# Altium footprint library Mechanical.PcbLib: 35 footprints (part 2 of 3)
Each footprint in its own frame and in the unit in brackets; x right, y up, seen from the top. Pads: shape width x height; smd on the part's side, far side on the other; paste and mask are expansions set on the pad; w line width, h text height; cw(c..) or ccw(c..) is an arc to the next point about the centre after c.
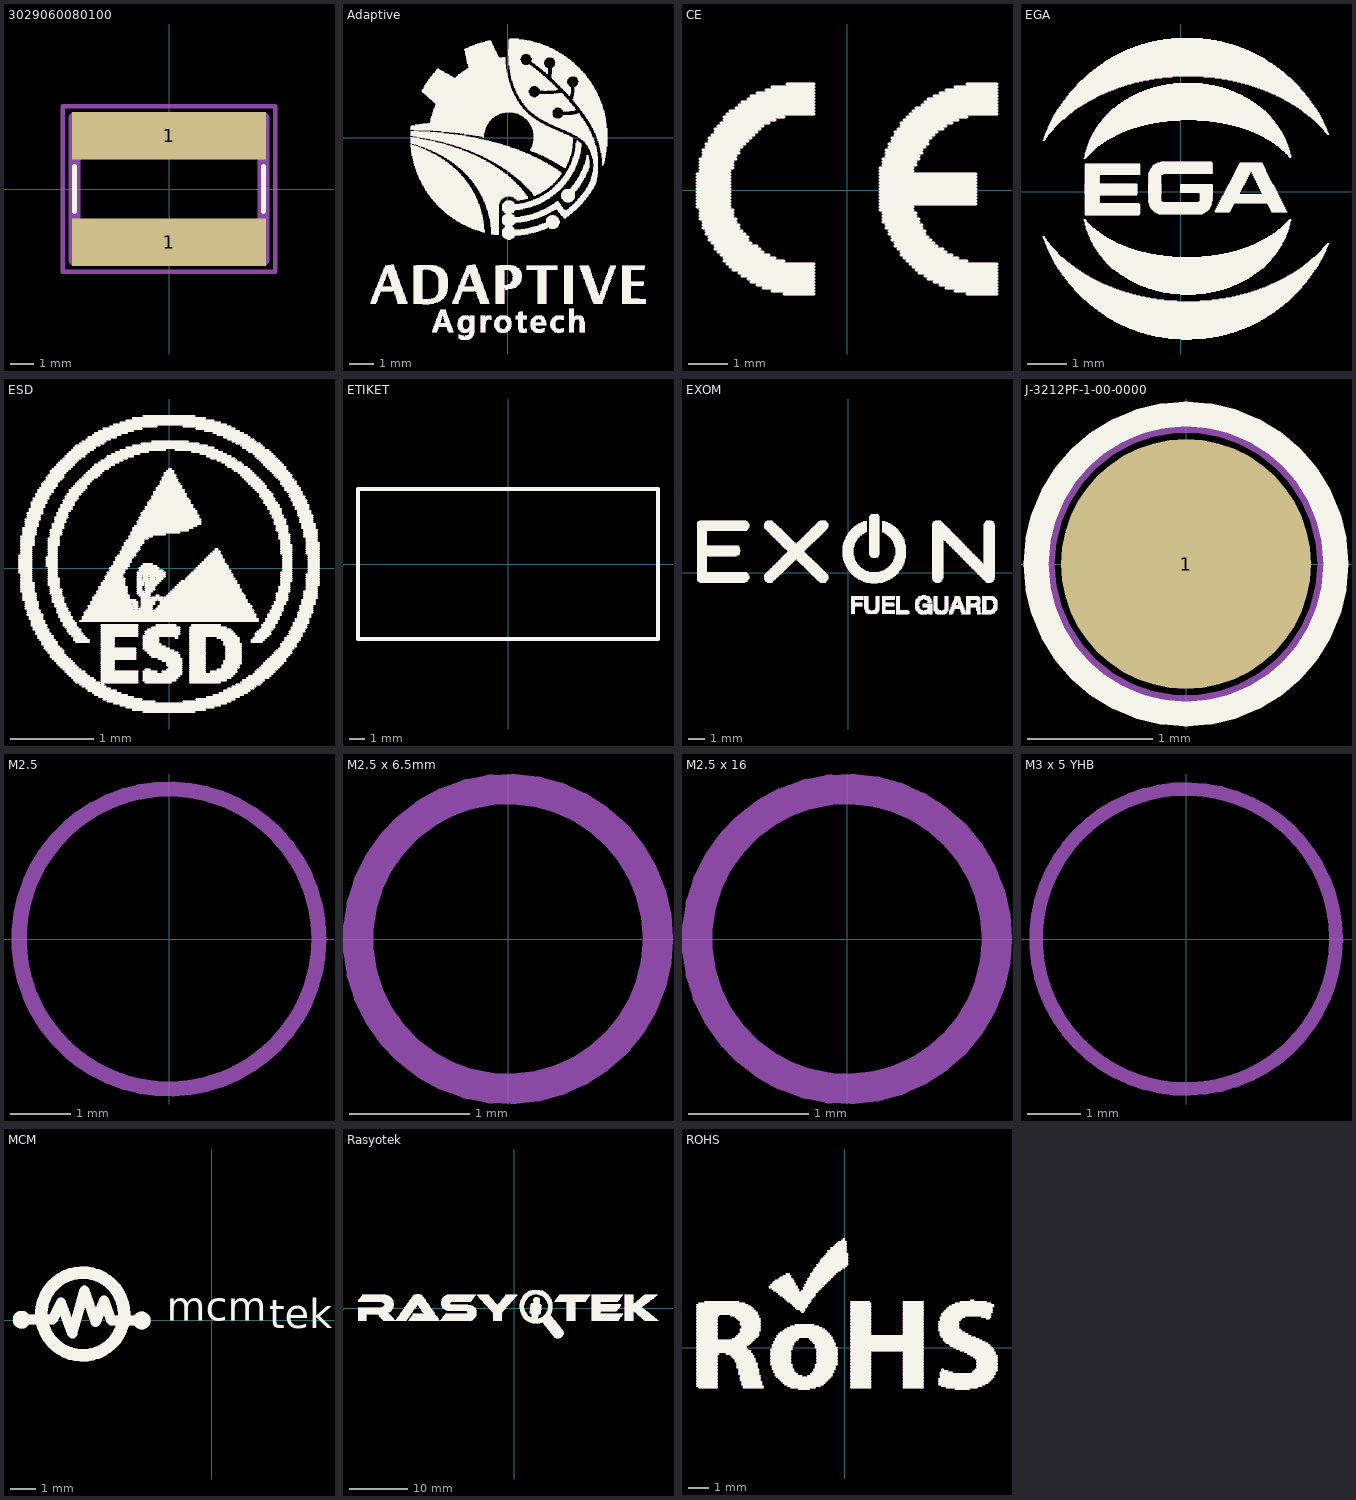
[diagram p1: the footprints below, top view; thin cyan lines are the x and y axes]

## 618009221823 [mm]
3D body "618009221823 (rev1).stp": height 30.83, standoff 0.01, extent -6.255,-9.06 6.295,12.3

## 3029060080100 [mm] "Surface Mount Solderable Gasket, size 8x6mm"
height 10
pads (2):
  rect 8.2x2 smd: 1(0,-2.25) 1(0,2.25)
Top Overlay:
  lines w0.2: -4,-0.95 -4,0.95 ; 4,-0.95 4,0.95
Mechanical 13:
  lines w0.5: -4,-3 -4,3 4,3 4,-3 -4,-3
  text ".Designator" at -4.998,-0.333 h1
Mechanical 15:
  lines w0.2: -4.5,-3.5 4.5,-3.5 4.5,3.5 -4.5,3.5 -4.5,-3.5
3D body "3029060080100.stp": height 10, standoff 0, extent -4,-3 4,3

## Adaptive [mm]
Top Overlay:
  drawing of 2644 lines, arcs and shapes, not listed
Mechanical 13:
  drawing of 2644 lines, arcs and shapes, not listed

## CE [mm]
Top Overlay:
  lines w0.076: -3.81,-0.432 -2.972,-0.432 ; -3.81,-0.356 -2.972,-0.356 ; -3.81,-0.279 -2.972,-0.279 ; -3.81,-0.203 -2.972,-0.203 ; -3.81,-0.127 -2.972,-0.127 ; -3.81,-0.051 -2.972,-0.051 ; -3.81,0.025 -2.972,0.025 ; -3.81,0.102 -2.972,0.102 ; -3.81,0.178 -2.972,0.178 ; -3.81,0.254 -2.972,0.254 ; -3.81,0.33 -2.972,0.33 ; -3.81,0.406 -2.972,0.406 ; -3.734,-0.737 -2.819,-0.737 ; -3.734,-0.66 -2.896,-0.66 ; -3.734,-0.584 -2.896,-0.584 ; -3.734,-0.508 -2.896,-0.508 ; -3.734,0.483 -2.972,0.483 ; -3.734,0.559 -2.896,0.559 ; -3.734,0.635 -2.896,0.635 ; -3.734,0.711 -2.896,0.711 ; -3.734,0.787 -2.819,0.787 ; -3.658,-0.965 -2.743,-0.965 ; -3.658,-0.889 -2.743,-0.889 ; -3.658,-0.813 -2.819,-0.813 ; -3.658,0.864 -2.819,0.864 ; -3.658,0.94 -2.743,0.94 ; -3.658,1.016 -2.743,1.016 ; -3.581,-1.118 -2.591,-1.118 ; -3.581,-1.041 -2.667,-1.041 ; -3.581,1.092 -2.667,1.092 ; -3.581,1.168 -2.591,1.168 ; -3.505,-1.27 -2.515,-1.27 ; -3.505,-1.194 -2.515,-1.194 ; -3.505,1.245 -2.515,1.245 ; -3.505,1.321 -2.438,1.321 ; -3.429,-1.346 -2.438,-1.346 ; -3.429,1.397 -2.362,1.397 ; -3.353,-1.499 -2.21,-1.499 ; -3.353,-1.422 -2.286,-1.422 ; -3.353,1.473 -2.286,1.473 ; -3.353,1.549 -2.21,1.549 ; -3.277,-1.575 -2.134,-1.575 ; -3.277,1.626 -2.134,1.626 ; -3.2,-1.651 -1.981,-1.651 ; -3.2,1.702 -1.981,1.702 ; -3.124,-1.803 -1.6,-1.803 ; -3.124,-1.727 -1.829,-1.727 ; -3.124,1.778 -1.829,1.778 ; -3.124,1.854 -1.6,1.854 ; -3.048,-1.88 -0.838,-1.88 ; -3.048,1.93 -0.838,1.93 ; -2.972,-1.956 -0.838,-1.956 ; -2.972,2.007 -0.838,2.007 ; -2.896,-2.032 -0.838,-2.032 ; -2.819,2.083 -0.838,2.083 ; -2.743,-2.108 -0.838,-2.108 ; -2.743,2.159 -0.838,2.159 ; -2.667,-2.184 -0.838,-2.184 ; -2.667,2.235 -0.838,2.235 ; -2.515,-2.261 -0.838,-2.261 ; -2.515,2.311 -0.838,2.311 ; -2.438,-2.337 -0.838,-2.337 ; -2.438,2.388 -0.838,2.388 ; -2.286,-2.413 -0.838,-2.413 ; -2.286,2.464 -0.838,2.464 ; -2.134,-2.489 -0.838,-2.489 ; -2.057,2.54 -0.838,2.54 ; -1.905,-2.565 -0.838,-2.565 ; -1.905,2.616 -0.838,2.616 ; -1.6,-2.642 -0.838,-2.642 ; -1.524,2.692 -0.838,2.692 ; 0.838,-0.508 1.676,-0.508 ; 0.838,-0.432 1.676,-0.432 ; 0.838,-0.356 3.277,-0.356 ; 0.838,-0.279 3.277,-0.279 ; 0.838,-0.203 3.277,-0.203 ; 0.838,-0.127 3.277,-0.127 ; 0.838,-0.051 3.277,-0.051 ; 0.838,0.025 3.277,0.025 ; 0.838,0.102 3.277,0.102 ; 0.838,0.178 3.277,0.178 ; 0.838,0.254 3.277,0.254 ; 0.838,0.33 3.277,0.33 ; 0.838,0.406 3.277,0.406 ; 0.838,0.483 1.676,0.483 ; 0.838,0.559 1.676,0.559 ; 0.914,-0.813 1.829,-0.813 ; 0.914,-0.737 1.829,-0.737 ; 0.914,-0.66 1.753,-0.66 ; 0.914,-0.584 1.753,-0.584 ; 0.914,0.635 1.753,0.635 ; 0.914,0.711 1.753,0.711 ; 0.914,0.787 1.829,0.787 ; 0.991,-0.965 1.905,-0.965 ; 0.991,-0.889 1.905,-0.889 ; 0.991,0.864 1.829,0.864 ; 0.991,0.94 1.905,0.94 ; 0.991,1.016 1.905,1.016 ; 1.067,-1.118 1.981,-1.118 ; 1.067,-1.041 1.981,-1.041 ; 1.067,1.092 1.981,1.092 ; 1.067,1.168 2.057,1.168 ; 1.143,-1.27 2.134,-1.27 ; 1.143,-1.194 2.057,-1.194 ; 1.143,1.245 2.057,1.245 ; 1.143,1.321 2.134,1.321 ; 1.219,-1.422 2.286,-1.422 ; 1.219,-1.346 2.21,-1.346 ; 1.219,1.397 2.21,1.397 ; 1.219,1.473 2.286,1.473 ; 1.295,-1.499 2.438,-1.499 ; 1.295,1.549 2.438,1.549 ; 1.372,-1.651 2.667,-1.651 ; 1.372,-1.575 2.515,-1.575 ; 1.372,1.626 2.515,1.626 ; 1.372,1.702 2.667,1.702 ; 1.448,-1.727 2.819,-1.727 ; 1.448,1.778 2.819,1.778 ; 1.524,-1.803 3.048,-1.803 ; 1.524,1.854 3.048,1.854 ; 1.6,-1.88 3.81,-1.88 ; 1.6,1.93 3.81,1.93 ; 1.676,-1.956 3.81,-1.956 ; 1.676,2.007 3.81,2.007 ; 1.753,-2.032 3.81,-2.032 ; 1.753,2.083 3.81,2.083 ; 1.829,-2.108 3.81,-2.108 ; 1.905,2.159 3.81,2.159 ; 1.981,-2.184 3.81,-2.184 ; 1.981,2.235 3.81,2.235 ; 2.057,-2.261 3.81,-2.261 ; 2.057,2.311 3.81,2.311 ; 2.21,-2.337 3.81,-2.337 ; 2.21,2.388 3.81,2.388 ; 2.362,-2.413 3.81,-2.413 ; 2.362,2.464 3.81,2.464 ; 2.515,-2.489 3.81,-2.489 ; 2.515,2.54 3.81,2.54 ; 2.743,-2.565 3.81,-2.565 ; 2.743,2.616 3.81,2.616 ; 3.048,-2.642 3.81,-2.642 ; 3.048,2.692 3.81,2.692
Mechanical 13:
  lines w0.076: -3.81,-0.432 -2.972,-0.432 ; -3.81,-0.356 -2.972,-0.356 ; -3.81,-0.279 -2.972,-0.279 ; -3.81,-0.203 -2.972,-0.203 ; -3.81,-0.127 -2.972,-0.127 ; -3.81,-0.051 -2.972,-0.051 ; -3.81,0.025 -2.972,0.025 ; -3.81,0.102 -2.972,0.102 ; -3.81,0.178 -2.972,0.178 ; -3.81,0.254 -2.972,0.254 ; -3.81,0.33 -2.972,0.33 ; -3.81,0.406 -2.972,0.406 ; -3.734,-0.737 -2.819,-0.737 ; -3.734,-0.66 -2.896,-0.66 ; -3.734,-0.584 -2.896,-0.584 ; -3.734,-0.508 -2.896,-0.508 ; -3.734,0.483 -2.972,0.483 ; -3.734,0.559 -2.896,0.559 ; -3.734,0.635 -2.896,0.635 ; -3.734,0.711 -2.896,0.711 ; -3.734,0.787 -2.819,0.787 ; -3.658,-0.965 -2.743,-0.965 ; -3.658,-0.889 -2.743,-0.889 ; -3.658,-0.813 -2.819,-0.813 ; -3.658,0.864 -2.819,0.864 ; -3.658,0.94 -2.743,0.94 ; -3.658,1.016 -2.743,1.016 ; -3.581,-1.118 -2.591,-1.118 ; -3.581,-1.041 -2.667,-1.041 ; -3.581,1.092 -2.667,1.092 ; -3.581,1.168 -2.591,1.168 ; -3.505,-1.27 -2.515,-1.27 ; -3.505,-1.194 -2.515,-1.194 ; -3.505,1.245 -2.515,1.245 ; -3.505,1.321 -2.438,1.321 ; -3.429,-1.346 -2.438,-1.346 ; -3.429,1.397 -2.362,1.397 ; -3.353,-1.499 -2.21,-1.499 ; -3.353,-1.422 -2.286,-1.422 ; -3.353,1.473 -2.286,1.473 ; -3.353,1.549 -2.21,1.549 ; -3.277,-1.575 -2.134,-1.575 ; -3.277,1.626 -2.134,1.626 ; -3.2,-1.651 -1.981,-1.651 ; -3.2,1.702 -1.981,1.702 ; -3.124,-1.803 -1.6,-1.803 ; -3.124,-1.727 -1.829,-1.727 ; -3.124,1.778 -1.829,1.778 ; -3.124,1.854 -1.6,1.854 ; -3.048,-1.88 -0.838,-1.88 ; -3.048,1.93 -0.838,1.93 ; -2.972,-1.956 -0.838,-1.956 ; -2.972,2.007 -0.838,2.007 ; -2.896,-2.032 -0.838,-2.032 ; -2.819,2.083 -0.838,2.083 ; -2.743,-2.108 -0.838,-2.108 ; -2.743,2.159 -0.838,2.159 ; -2.667,-2.184 -0.838,-2.184 ; -2.667,2.235 -0.838,2.235 ; -2.515,-2.261 -0.838,-2.261 ; -2.515,2.311 -0.838,2.311 ; -2.438,-2.337 -0.838,-2.337 ; -2.438,2.388 -0.838,2.388 ; -2.286,-2.413 -0.838,-2.413 ; -2.286,2.464 -0.838,2.464 ; -2.134,-2.489 -0.838,-2.489 ; -2.057,2.54 -0.838,2.54 ; -1.905,-2.565 -0.838,-2.565 ; -1.905,2.616 -0.838,2.616 ; -1.6,-2.642 -0.838,-2.642 ; -1.524,2.692 -0.838,2.692 ; 0.838,-0.508 1.676,-0.508 ; 0.838,-0.432 1.676,-0.432 ; 0.838,-0.356 3.277,-0.356 ; 0.838,-0.279 3.277,-0.279 ; 0.838,-0.203 3.277,-0.203 ; 0.838,-0.127 3.277,-0.127 ; 0.838,-0.051 3.277,-0.051 ; 0.838,0.025 3.277,0.025 ; 0.838,0.102 3.277,0.102 ; 0.838,0.178 3.277,0.178 ; 0.838,0.254 3.277,0.254 ; 0.838,0.33 3.277,0.33 ; 0.838,0.406 3.277,0.406 ; 0.838,0.483 1.676,0.483 ; 0.838,0.559 1.676,0.559 ; 0.914,-0.813 1.829,-0.813 ; 0.914,-0.737 1.829,-0.737 ; 0.914,-0.66 1.753,-0.66 ; 0.914,-0.584 1.753,-0.584 ; 0.914,0.635 1.753,0.635 ; 0.914,0.711 1.753,0.711 ; 0.914,0.787 1.829,0.787 ; 0.991,-0.965 1.905,-0.965 ; 0.991,-0.889 1.905,-0.889 ; 0.991,0.864 1.829,0.864 ; 0.991,0.94 1.905,0.94 ; 0.991,1.016 1.905,1.016 ; 1.067,-1.118 1.981,-1.118 ; 1.067,-1.041 1.981,-1.041 ; 1.067,1.092 1.981,1.092 ; 1.067,1.168 2.057,1.168 ; 1.143,-1.27 2.134,-1.27 ; 1.143,-1.194 2.057,-1.194 ; 1.143,1.245 2.057,1.245 ; 1.143,1.321 2.134,1.321 ; 1.219,-1.422 2.286,-1.422 ; 1.219,-1.346 2.21,-1.346 ; 1.219,1.397 2.21,1.397 ; 1.219,1.473 2.286,1.473 ; 1.295,-1.499 2.438,-1.499 ; 1.295,1.549 2.438,1.549 ; 1.372,-1.651 2.667,-1.651 ; 1.372,-1.575 2.515,-1.575 ; 1.372,1.626 2.515,1.626 ; 1.372,1.702 2.667,1.702 ; 1.448,-1.727 2.819,-1.727 ; 1.448,1.778 2.819,1.778 ; 1.524,-1.803 3.048,-1.803 ; 1.524,1.854 3.048,1.854 ; 1.6,-1.88 3.81,-1.88 ; 1.6,1.93 3.81,1.93 ; 1.676,-1.956 3.81,-1.956 ; 1.676,2.007 3.81,2.007 ; 1.753,-2.032 3.81,-2.032 ; 1.753,2.083 3.81,2.083 ; 1.829,-2.108 3.81,-2.108 ; 1.905,2.159 3.81,2.159 ; 1.981,-2.184 3.81,-2.184 ; 1.981,2.235 3.81,2.235 ; 2.057,-2.261 3.81,-2.261 ; 2.057,2.311 3.81,2.311 ; 2.21,-2.337 3.81,-2.337 ; 2.21,2.388 3.81,2.388 ; 2.362,-2.413 3.81,-2.413 ; 2.362,2.464 3.81,2.464 ; 2.515,-2.489 3.81,-2.489 ; 2.515,2.54 3.81,2.54 ; 2.743,-2.565 3.81,-2.565 ; 2.743,2.616 3.81,2.616 ; 3.048,-2.642 3.81,-2.642 ; 3.048,2.692 3.81,2.692

## EGA [mm]
Top Overlay:
  drawing of 759 lines, arcs and shapes, not listed
Mechanical 13:
  drawing of 759 lines, arcs and shapes, not listed

## ESD [mm]
Top Overlay:
  drawing of 703 lines, arcs and shapes, not listed
Mechanical 13:
  drawing of 703 lines, arcs and shapes, not listed

## ETIKET [mm]
Top Overlay:
  lines w0.254: -10,-5 10,-5 10,5 -10,5 -10,-5
Mechanical 13:
  lines w0.254: -10,-5 10,-5 10,5 -10,5 -10,-5

## EXOM [mm]
Top Overlay:
  drawing of 1759 lines, arcs and shapes, not listed
Mechanical 13:
  drawing of 1759 lines, arcs and shapes, not listed

## J-3212PF-1-00-0000 [mm]
pads (1):
  round 2 smd paste-2539.97: 1(0,0)
Top Overlay:
  circle w0.2: c0,0 r1.2
Mechanical 13:
  circle w0.1: c0,0 r1.1
  text ".Designator" at -1,-0.067 h0.2
Mechanical 15:
  lines w0.05: -0.5,0 0.5,0 ; 0,-0.5 0,0.5
3D body "J-3212PF-1-00-0000 v3.step": height 3.9, standoff -0.49, extent -0.9,-0.893 0.9,0.893

## M2.5 [mm]
Mechanical 5:
  circle w0.254: c0,0 r2.5
3D body "M2.5 Civata v1.step": height -1.6, standoff -3.6, extent -2.771,-2.805 2.771,2.805

## M2.5 x 6.5mm [mm]
Mechanical 5:
  circle w0.254: c0,0 r1.25
3D body "M2.5 v1.step": height 8.5, standoff 0, extent -2.49,-2.42 2.51,2.58

## M2.5 x 16 [mm]
Mechanical 5:
  circle w0.254: c0,0 r1.25
3D body "M2.5x16 v1.step": height 14.2, standoff -3.8, extent -2.477,-2.565 2.523,2.433

## M3 x 5 YHB [mm]
Mechanical 5:
  circle w0.254: c0,0 r2.802
3D body "User Library-M3x0_5xL Phillips Panhead Screw.step": height 2.39, standoff -4.99, extent -2.8,-2.789 2.8,2.789

## MCM [mm]
Top Overlay:
  circle w0.5: c-2.803,-0.009 r0.105
  circle w0.5: c-7.625,0.023 r0.105
  circle w0.5: c-5.175,0.25 r1.659
  lines w0.051: -4.978,0.379 -4.013,0.379 ; -3.708,0.125 -3.302,0.125
  lines w0.4: -7.625,0.023 -6.378,0.023 -6.053,0.716 -5.588,-0.534 -5.103,1.192 -4.653,-0.078 -4.318,0.785 -4.028,-0.009 -2.803,-0.009
  text "teknoloji" at 2.3,-0.7 h2
  text "mcm" at -1.8,-0.4 h2
Mechanical 13:
  circle w0.5: c-2.803,-0.009 r0.105
  circle w0.5: c-7.625,0.023 r0.105
  circle w0.5: c-5.175,0.25 r1.659
  lines w0.051: -4.978,0.379 -4.013,0.379 ; -3.708,0.125 -3.302,0.125
  lines w0.4: -7.625,0.023 -6.378,0.023 -6.053,0.716 -5.588,-0.534 -5.103,1.192 -4.653,-0.078 -4.318,0.785 -4.028,-0.009 -2.803,-0.009
  text "teknoloji" at 2.3,-0.7 h2
  text "mcm" at -1.8,-0.4 h2

## Rasyotek [mm]
Top Overlay:
  drawing of 786 lines, arcs and shapes, not listed
Mechanical 13:
  drawing of 786 lines, arcs and shapes, not listed

## ROHS [mm]
Top Overlay:
  drawing of 392 lines, arcs and shapes, not listed
Mechanical 13:
  drawing of 392 lines, arcs and shapes, not listed